# EAGLE library part 7SEG-4DIG (library usb)
7 Segment 4 Digit Common Catode
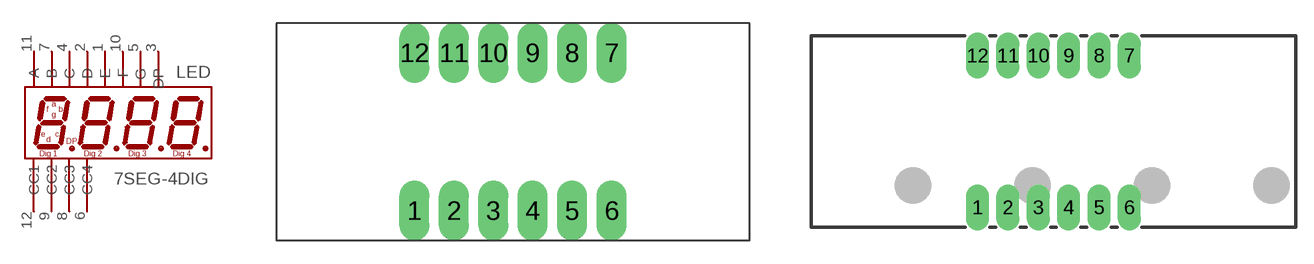
[diagram p17: symbol with the pads of 7SEG_4DIG_0.25; footprints 7SEG_4DIG_0.25, 7SEG_4DIG_0.39]

Designator prefix LED

## 7SEG-4DIG-0.25  [7SEG_4DIG_0.25]
1  E  in
2  D  in
3  DP  in
4  C  in
5  G  in
6  CC4  in
7  B  in
8  CC3  in
9  CC2  in
10  F  in
11  A  in
12  CC1  in

## 7SEG-4DIG-0.39  [7SEG_4DIG_0.39]
Pads as for 7SEG_4DIG_0.25

## Footprint 7SEG_4DIG_0.25 (pad centres in mm)
7Seg 4digit pattern
drill 0.9 pad 1.93 long: 1 -6.35,-5.08; 2 -3.81,-5.08; 3 -1.27,-5.08; 4 1.27,-5.08; 5 3.81,-5.08; 6 6.35,-5.08; 7 6.35,5.08; 8 3.81,5.08; 9 1.27,5.08; 10 -1.27,5.08; 11 -3.81,5.08; 12 -6.35,5.08

## Footprint 7SEG_4DIG_0.39 (pad centres in mm)
drill 0.9 pad 1.93 long: 1 0,0; 2 2.54,0; 3 5.08,0; 4 7.62,0; 5 10.16,0; 6 12.7,0; 7 12.7,12.7; 8 10.16,12.7; 9 7.62,12.7; 10 5.08,12.7; 11 2.54,12.7; 12 0,12.7